# Altium footprint library 6P_HEADER-STD_TH_1ROW.PcbLib: 1 footprints
Each footprint in its own frame and in the unit in brackets; x right, y up, seen from the top. Pads: shape width x height; smd on the part's side, far side on the other; paste and mask are expansions set on the pad; w line width, h text height; cw(c..) or ccw(c..) is an arc to the next point about the centre after c.
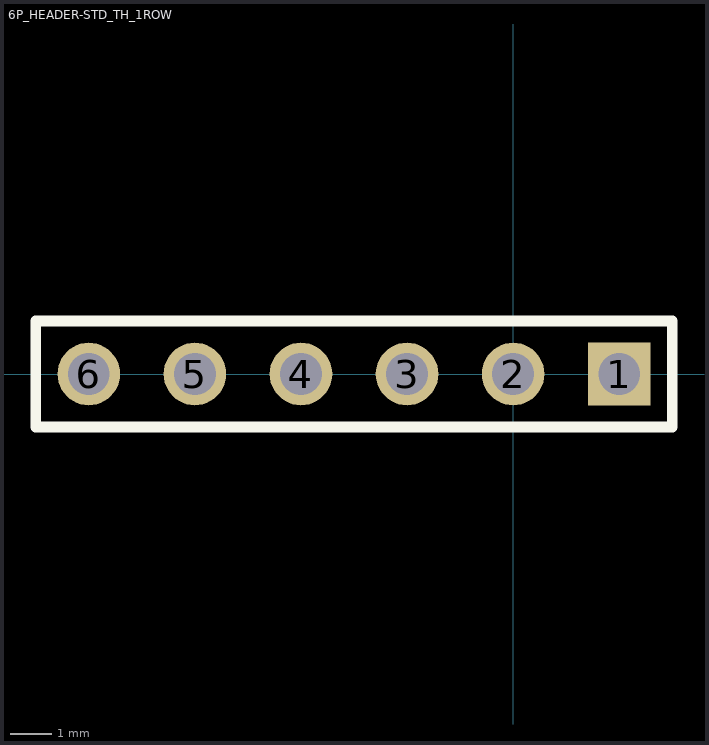
[diagram p0: the footprint, top view; thin cyan lines are the x and y axes]

## 6P_HEADER-STD_TH_1ROW [mm] "6P TH header, 2.54mm pitch"
pads (6):
  rect 1.5x1.5 hole 1: 1(2.54,0)
  round 1.5 hole 1: 2(0,0) 3(-2.54,0) 4(-5.08,0) 5(-7.62,0) 6(-10.16,0)
Top Overlay:
  lines w0.254: -11.43,-1.27 -11.43,1.27 3.81,1.27 3.81,-1.27 -11.43,-1.27